# Altium schematic symbol library Socket.SchLib: 57 symbols (part 1 of 2)
Pins are listed as number, name and electrical type; pins without a type are passive.

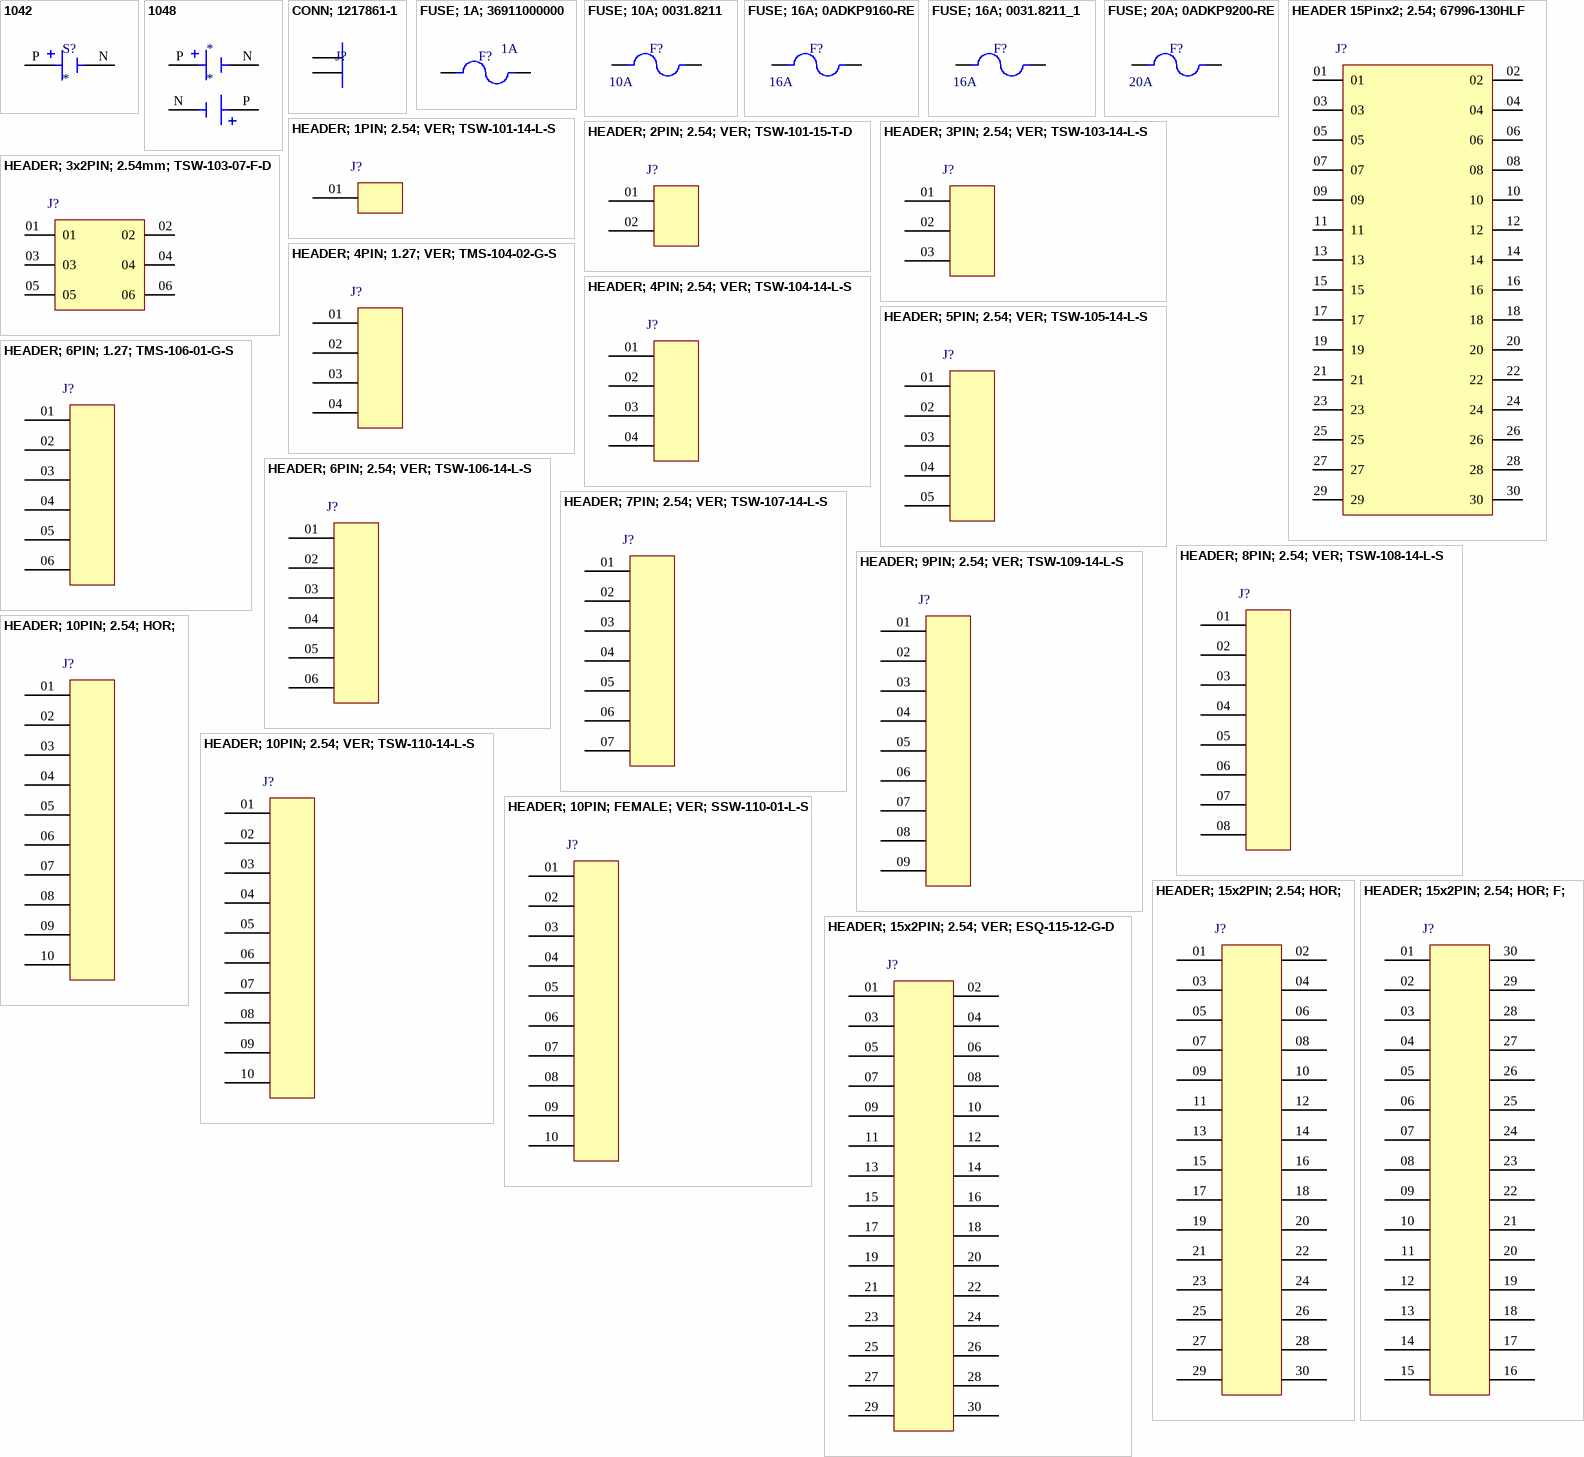
[diagram p0: symbols 1042 to HEADER; 15x2PIN; 2.54; VER; ESQ-115-12-G-D]

## 1042
designator S?
Battery Holder, SMT, Nylon, High Temp, UL 94V-O, 1 Cell, 18650 | Keystone Electronics 1042; Manufacturer Part Number: 1042; Supplier: Future Electronics; Supplier Part Number: 8033674; Manufacturer: Keystone Electronics; RoHS: Yes; Category: LDO; Stock: 1600; Pricing: 200=2.74, 600=2.68, 800=2.66, 2000=2.61, 3000=2.56 (USD); Lead Free: 5697LeadFree; ComponentLink1URL: https://datasheet.ciiva.com/3353/key1042-rev-eng-tds-3353207.pdf?src-supplier=Distrelec; ComponentLink1Description: https://datasheet.ciiva.com/3353/key1042-rev-eng-tds-3353207.pdf?src-supplier=Distrelec; ComponentLink2URL: https://datasheet.ciiva.com/4/1042-4715.pdf?src-supplier=Digikey; ComponentLink2Description: https://datasheet.ciiva.com/4/1042-4715.pdf?src-supplier=Digikey
footprint SMD-18650-BAT-1042
pins: N NEG, P POS

## 1048
designator *
Battery Holder, SMT, Nylon, High Temp, UL 94V-O, 2 Cell, 18650 | Keystone Electronics 1048; Manufacturer Part Number: 1048; Supplier: Newark; Supplier Part Number: 56T2029; Manufacturer: Keystone Electronics; RoHS: Yes; Category: Batteries and Accessories; Stock: 352; Pricing: 1=9.17, 5=8.78, 10=8.38, 25=7.99, 50=7.32, 100=6.66 (USD); ComponentLink1URL: https://datasheet.ciiva.com/4/1048-4780.pdf?src-supplier=Digikey; ComponentLink1Description: https://datasheet.ciiva.com/4/1048-4780.pdf?src-supplier=Digikey; ComponentLink2URL: https://datasheet.ciiva.com/3353/key1048-rev-eng-tds-3353209.pdf?src-supplier=Distrelec; ComponentLink2Description: https://datasheet.ciiva.com/3353/key1048-rev-eng-tds-3353209.pdf?src-supplier=Distrelec; ComponentLink3URL: https://datasheet.ciiva.com/6946/m60p17-6946688.pdf?src-supplier=Newark; ComponentLink3Description: https://datasheet.ciiva.com/6946/m60p17-6946688.pdf?src-supplier=Newark; ComponentLink4URL: https://datasheet.ciiva.com/14603/70182388-14603690.pdf?src-supplier=Allied+Electronics; ComponentLink4Description: https://datasheet.ciiva.com/14603/70182388-14603690.pdf?src-supplier=Allied+Electronics
pins: N NEG, N NEG, P POS, P POS

## CONN; 1217861-1
designator J?, comment 0.250" (6.35mm) Quick Connect Male Solder Connector Non-Insulated  (value not drawn)
Quick Disconnect Terminal Tab 10.21mm 7.92mm Tin Strip; Manufacturer: TE Connectivity; Manufacturer Part Number: 1217861-1; Designer: TVBac; Supplier: Avnet; Supplier Part Number: 1217861-1; RoHS: Yes; Category: Terminals; Stock: 190000; Pricing: 10000=0.03143 (USD); Min Operating Temperature: -30°C; Max Operating Temperature: 110°C; Orientation: 5491OrientationType; Height: 10.21mm; Lead Free: 5697LeadFree; RoHS Compliant: 5897YesNo; ELV: 5681ELVCompliant; ComponentLink1URL: https://datasheet.ciiva.com/23773/eng-cd-1217861-f3-23773529.pdf?src-supplier=Newark; ComponentLink1Description: https://datasheet.ciiva.com/23773/eng-cd-1217861-f3-23773529.pdf?src-supplier=Newark; ComponentLink2Description: Link Digikey; ComponentLink2URL: https://www.digikey.com/en/products/detail/te-connectivity-amp-connectors/1217861-1/1148769
footprint CONN-QC-TAB-TECAC
pins: 1, 2

## FUSE; 1A; 36911000000
designator F?, comment value 1A  (hidden comment: 1 A 300 V AC DC Fuse Board Mount (Cartridge Style Excluded) Through Hole Radial, Box)
Fuse Subminiature Slow Blow Acting 1A 300V Radial 8.5 X 4 X 8mm Ammo Pack; Manufacturer: Littelfuse Wickmann; Manufacturer Part Number: 36911000000; DC Cold Resistance: 71.5mR; Blow Characteristic: TIME DELAY; Lead Length: 18.8mm; Designer: TVBac; Supplier: Digikey; Supplier Part Number: F5459CT-ND; RoHS: Yes; Category: Fuses; Stock: 1380; Pricing: 1=0.58, 5=0.482, 10=0.446, 50=0.3714, 100=0.3433, 250=0.30924, 500=0.28568, 1400=0.25378, 2800=0.23421, 4200=0.22341, 7000=0.218 (USD); Mounting Technology: Through Hole; Case/Package: Radial; Min Operating Temperature: -40°C; Max Operating Temperature: 85°C; Package Quantity: 1400; Current Rating: 1A; Voltage Rating (AC): 300V; Packaging: Cut Tape; Termination: Radial; Current: 1A; Fuse Current: 1A; Working Voltage: 300V; Fuse Type: Board Mount (Cartridge Style Excluded); Series: TE5® 369; Length: 0.335inch; Width: 0.157inch; Height: 0.315inch; Size: 8mm; Reach SVHC Compliant: No; Lead Free: Lead Free; RoHS Compliant: Yes; ComponentLink1URL: https://datasheet.ciiva.com/7464/littelfuse-fuse-369-series-7464654.pdf?src-supplier=Digikey; ComponentLink1Description: https://datasheet.ciiva.com/7464/littelfuse-fuse-369-series-7464654.pdf?src-supplier=Digikey; ComponentLink2URL: https://datasheet.ciiva.com/16320/littelfuse-fuse-369-16320426.pdf?src-supplier=Future+Electronics; ComponentLink2Description: https://datasheet.ciiva.com/16320/littelfuse-fuse-369-16320426.pdf?src-supplier=Future+Electronics; ComponentLink3Description: Link Digikey; ComponentLink3URL: https://www.digikey.com/en/products/detail/littelfuse-inc/36911000000/1986930
footprint FUSE-HxLxW-8.0x8.5x4.0-LI
pins: 1, 2

## FUSE; 10A; 0031.8211
designator F?, comment value 10A  (hidden comment: Fuse Block 10 A 500V 1 Circuit Cartridge Through Hole)
Fuse Holder Open Design; 5 x 20mm; 500; 10A; 1P; Solder THT 25mm; Manufacturer: Schurter; Manufacturer Part Number: 0031.8211; Designer: TVBac; Supplier: Digikey; Supplier Part Number: 486-1259-ND; RoHS: Yes; Category: Fuse Holders; Stock: 46433; Pricing: 1=0.91, 50=0.676, 100=0.608, 500=0.47 (USD); ComponentLink1URL: https://datasheet.ciiva.com/16215/93typ-ogn-16215101.pdf?src-supplier=Onlinecomponents.com; ComponentLink1Description: https://datasheet.ciiva.com/16215/93typ-ogn-16215101.pdf?src-supplier=Onlinecomponents.com; ComponentLink2URL: https://datasheet.ciiva.com/295/typ-ogn-295737.pdf?src-supplier=Digikey; ComponentLink2Description: https://datasheet.ciiva.com/295/typ-ogn-295737.pdf?src-supplier=Digikey; ComponentLink3URL: https://datasheet.ciiva.com/18416/70160102-18416645.pdf?src-supplier=Allied+Electronics; ComponentLink3Description: https://datasheet.ciiva.com/18416/70160102-18416645.pdf?src-supplier=Allied+Electronics; ComponentLink4URL: https://datasheet.ciiva.com/1269/1842496-1269252.pdf?src-supplier=Element14; ComponentLink4Description: https://datasheet.ciiva.com/1269/1842496-1269252.pdf?src-supplier=Element14; ComponentLink5URL: https://datasheet.ciiva.com/15188/getdatasheetpartid-392105-15188043.pdf?src-supplier=Verical; ComponentLink5Description: https://datasheet.ciiva.com/15188/getdatasheetpartid-392105-15188043.pdf?src-supplier=Verical; ComponentLink6URL: https://datasheet.ciiva.com/16385/typ-ogn-16385398.pdf?src-supplier=Future+Electronics; ComponentLink6Description: https://datasheet.ciiva.com/16385/typ-ogn-16385398.pdf?src-supplier=Future+Electronics; ComponentLink7URL: https://datasheet.ciiva.com/3014/typ-ogn-3014481.pdf?src-supplier=Avnet; ComponentLink7Description: https://datasheet.ciiva.com/3014/typ-ogn-3014481.pdf?src-supplier=Avnet; ComponentLink8Description: Link Digikey; ComponentLink8URL: https://www.digikey.com/en/products/detail/schurter-inc/0031-8211/669926
footprint FUSE-5mmx20mm-CHURTER
pins: 1, 2

## FUSE; 16A; 0ADKP9160-RE
designator F?, comment value 16A  (hidden comment: 16 A 600 V AC 500 V DC Fuse Cartridge, Ceramic Through Hole 5mm x 20mm (Axial))
Fuse 16A 600VAC 500VDC Time Delay 2-Pin Through Hole; Manufacturer: Bel; Manufacturer Part Number: 0ADKP9160-RE; Designer: TVBac; Supplier: Mouser; Supplier Part Number: 530-0ADKP9160-RE; RoHS: No; Category: Fuses; Stock: 930; Pricing: 1=1.95, 10=1.85, 50=1.49, 100=1.29, 1000=0.989, 10000=0.917 (USD); ComponentLink1URL: https://belfuse.com/resources/datasheets/circuitprotection/ds-cp-0adkx-series.pdf?src-supplier=Digikey; ComponentLink1Description: https://belfuse.com/resources/datasheets/circuitprotection/ds-cp-0adkx-series.pdf?src-supplier=Digikey; ComponentLink2Description: Link Digikey; ComponentLink2URL: https://www.digikey.com/en/products/detail/bel-fuse-inc/0ADKP9160-RE/7404483
footprint FUSE-5mmx20mm-AXIAL-BFI
pins: 1, 2

## FUSE; 16A; 0031.8211_1
designator F?  value 16A
Manufacturer: Schurter; Manufacturer Part Number: 0031.8211; Designer: TVBac; Supplier: Digikey; Supplier Part Number: 486-1259-ND; RoHS: Yes; Category: Fuse Holders; Stock: 46433; Pricing: 1=0.91, 50=0.676, 100=0.608, 500=0.47 (USD); ComponentLink1URL: https://datasheet.ciiva.com/16215/93typ-ogn-16215101.pdf?src-supplier=Onlinecomponents.com; ComponentLink1Description: https://datasheet.ciiva.com/16215/93typ-ogn-16215101.pdf?src-supplier=Onlinecomponents.com; ComponentLink2URL: https://datasheet.ciiva.com/295/typ-ogn-295737.pdf?src-supplier=Digikey; ComponentLink2Description: https://datasheet.ciiva.com/295/typ-ogn-295737.pdf?src-supplier=Digikey; ComponentLink3URL: https://datasheet.ciiva.com/18416/70160102-18416645.pdf?src-supplier=Allied+Electronics; ComponentLink3Description: https://datasheet.ciiva.com/18416/70160102-18416645.pdf?src-supplier=Allied+Electronics; ComponentLink4URL: https://datasheet.ciiva.com/1269/1842496-1269252.pdf?src-supplier=Element14; ComponentLink4Description: https://datasheet.ciiva.com/1269/1842496-1269252.pdf?src-supplier=Element14; ComponentLink5URL: https://datasheet.ciiva.com/15188/getdatasheetpartid-392105-15188043.pdf?src-supplier=Verical; ComponentLink5Description: https://datasheet.ciiva.com/15188/getdatasheetpartid-392105-15188043.pdf?src-supplier=Verical; ComponentLink6URL: https://datasheet.ciiva.com/16385/typ-ogn-16385398.pdf?src-supplier=Future+Electronics; ComponentLink6Description: https://datasheet.ciiva.com/16385/typ-ogn-16385398.pdf?src-supplier=Future+Electronics; ComponentLink7URL: https://datasheet.ciiva.com/3014/typ-ogn-3014481.pdf?src-supplier=Avnet; ComponentLink7Description: https://datasheet.ciiva.com/3014/typ-ogn-3014481.pdf?src-supplier=Avnet
footprint FUSE-3.6mmx10mm-AXIAL
pins: 1, 2

## FUSE; 20A; 0ADKP9200-RE
designator F?, comment value 20A  (hidden comment: 20 A 600 V AC 500 V DC Fuse Cartridge, Ceramic Through Hole 5mm x 20mm (Axial))
Fuse 20A 600VAC 500VDC Time Delay 2-Pin Through Hole; Manufacturer: Bel; Manufacturer Part Number: 0ADKP9200-RE; Designer: TVBac; Supplier: Digikey; Supplier Part Number: 5923-0ADKP9200-RE-ND; RoHS: Yes; Category: Fuses; Stock: 157; Pricing: 1=2.13, 5=1.774, 10=1.64, 50=1.3664, 100=1.2626, 250=1.13684, 500=1.04966, 1000=0.96871, 5000=0.80225 (USD); ComponentLink1URL: https://belfuse.com/resources/Datasheets/CircuitProtection/ds-CP-0adkx-series.pdf?src-supplier=Digikey; ComponentLink1Description: https://belfuse.com/resources/Datasheets/CircuitProtection/ds-CP-0adkx-series.pdf?src-supplier=Digikey; ComponentLink2URL: https://datasheet.octopart.com/0ADKP9200-RE-Bel-Fuse-datasheet-154833970.pdf?src-supplier=Master+Electronics; ComponentLink2Description: https://datasheet.octopart.com/0ADKP9200-RE-Bel-Fuse-datasheet-154833970.pdf?src-supplier=Master+Electronics; ComponentLink3Description: Link Digikey; ComponentLink3URL: https://www.digikey.com/en/products/detail/bel-fuse-inc/0ADKP9200-RE/7404484
footprint FUSE-5mmx20mm-AXIAL-BFI
pins: 1, 2

## HEADER 15Pinx2; 2.54; 67996-130HLF
designator J?, comment Connector Header Through Hole 30 position 0.100" (2.54mm)  (value not drawn)
Conn Unshrouded Header HDR 30 POS 2.54mm Solder ST Top Entry Thru-Hole BergStik® Bulk; Manufacturer: Amphenol ICC / FCI; Manufacturer Part Number: 67996-130HLF; Designer: TVBac; Supplier: Digikey; Supplier Part Number: 609-3456-ND; RoHS: No; Category: Headers and Wire Housings; Stock: 164; Pricing: 1=2.48, 10=1.892, 200=1.25675, 600=1.17798, 1000=1.08894, 5000=0.97663, 10000=0.94925 (USD); ComponentLink1URL: https://cdn.amphenol-icc.com/media/wysiwyg/files/drawing/67996.pdf?src-supplier=Digikey; ComponentLink1Description: https://cdn.amphenol-icc.com/media/wysiwyg/files/drawing/67996.pdf?src-supplier=Digikey; ComponentLink2URL: http://www.mouser.com/ds/2/154/67996-225308.pdf?src-supplier=Mouser; ComponentLink2Description: http://www.mouser.com/ds/2/154/67996-225308.pdf?src-supplier=Mouser; ComponentLink3URL: http://portal.fciconnect.com/Comergent/fci/drawing/67996.pdf?src-supplier=Avnet; ComponentLink3Description: http://portal.fciconnect.com/Comergent/fci/drawing/67996.pdf?src-supplier=Avnet; ComponentLink4URL: http://components.arrow.com/part/dataview/41913581S849310N8314?src-supplier=Arrow+Electronics; ComponentLink4Description: http://components.arrow.com/part/dataview/41913581S849310N8314?src-supplier=Arrow+Electronics; ComponentLink5Description: Link Digikey; ComponentLink5URL: https://www.digikey.com/en/products/detail/amphenol-icc-fci/67996-130HLF/2023300
footprint HEADER-15x2-2.54mm
pins: 01, 02, 03, 04, 05, 06, 07, 08, 09, 10, 11, 12, 13, 14, 15, 16, 17, 18, 19, 20, 21, 22, 23, 24, 25, 26, 27, 28, 29, 30

## HEADER; 1PIN; 2.54; VER; TSW-101-14-L-S
designator J?, comment Connector Header Through Hole 1 position  (value not drawn)
Board Connector, 1 Contact(s), 1 Row(s), Male, Straight, Solder Terminal, Black Insulator; Manufacturer: Samtec; Manufacturer Part Number: TSW-101-14-L-S; Designer: TVBac; Supplier: Arrow Electronics; Supplier Part Number: TSW-101-14-L-S; RoHS: Yes; Category: Connectors; Stock: 4464; Pricing: 1=0.13, 50=0.1, 100=0.08, 500=0.07, 1000=0.05, 2000=0.04, 5000=0.03 (USD); ComponentLink1URL: https://datasheet.ciiva.com/10298/htsw-th-10298748.pdf?src-supplier=Avnet; ComponentLink1Description: https://datasheet.ciiva.com/10298/htsw-th-10298748.pdf?src-supplier=Avnet; ComponentLink2URL: https://datasheet.ciiva.com/6889/tsw-xxx-xx-xxx-x-xx-xxx-mkt-6889017.pdf?src-supplier=Digikey; ComponentLink2Description: https://datasheet.ciiva.com/6889/tsw-xxx-xx-xxx-x-xx-xxx-mkt-6889017.pdf?src-supplier=Digikey; ComponentLink3Description: Link Digikey; ComponentLink3URL: https://www.digikey.com/en/products/detail/samtec-inc/TSW-101-14-L-S/1102623
footprint HEADER-2.54-1
pins: 01 1

## HEADER; 2PIN; 2.54; VER; TSW-101-15-T-D
designator J?, comment Connector Header Through Hole 2 position  (value not drawn)
Headers & Wire Housings Classic PCB Header Strips, 0.100 pitch; Manufacturer: Samtec; Manufacturer Part Number: TSW-101-15-T-D; Designer: TVBac; Supplier: Arrow Electronics; Supplier Part Number: TSW-101-15-T-D; RoHS: Yes; Category: Connectors; Stock: 4464; Pricing: 1=0.18, 50=0.14, 100=0.12, 500=0.1, 1000=0.07, 2000=0.06, 5000=0.05 (USD); ComponentLink1URL: https://datasheet.ciiva.com/10283/htsw-th-10283318.pdf?src-supplier=Avnet; ComponentLink1Description: https://datasheet.ciiva.com/10283/htsw-th-10283318.pdf?src-supplier=Avnet; ComponentLink2Description: Link Digikey; ComponentLink2URL: https://www.digikey.com/en/products/detail/samtec-inc/TSW-101-15-T-D/7861723
footprint HEADER-2.54-2
footprint HEADER-2.54-2 - U3D
pins: 01 1, 02 2

## HEADER; 3PIN; 2.54; VER; TSW-103-14-L-S
designator J?, comment Connector Header Through Hole 3 position 0.100" (2.54mm)  (value not drawn)
Conn Unshrouded Header HDR 3 POS 2.54mm Solder ST Top Entry Thru-Hole Bag; Manufacturer: Samtec; Manufacturer Part Number: TSW-103-14-L-S; Max Current Rating: 7.6A; Voltage Rating: 550V; Number of Positions: 3; Gender: Male; Designer: TVBac; Supplier: Digikey; Supplier Part Number: SAM1055-03-ND; RoHS: Yes; Category: Connectors; Stock: 942; Pricing: 1=0.37, 10=0.319, 100=0.2482, 500=0.21278, 1000=0.17732, 5000=0.15198, 10000=0.14185 (USD); Mounting Technology: Through Hole; Contact Plating: Gold; Contact Material: Bronze; Housing Color: Black; Housing Material: Polyester; Contact Shape: Square; Contact Finish - Mating: GOLD; Insulation Material: PBT; Insulation Color: Black; Min Operating Temperature: -55°C; Max Operating Temperature: 125°C; Number of Rows: 1; Packaging: Bulk; Current Rating: 7.6A; Termination: Solder; Number of Contacts: 3; Max Voltage Rating (AC): 550V; Orientation: Straight; Connector Type: Header; Series: TSW; Contact Type: Male Pin; Fastening Type: Pull; Length: 7.62mm; Width: 2.54mm; Pitch: 2.54mm; Depth: 2.54mm; Reach SVHC Compliant: No; Lead Free: Lead Free; RoHS Compliant: Yes; Flammability Rating: UL94 V-0; ComponentLink1URL: https://datasheet.ciiva.com/25618/0900766b81154476-25618314.pdf?src-supplier=Rs; ComponentLink1Description: https://datasheet.ciiva.com/25618/0900766b81154476-25618314.pdf?src-supplier=Rs; ComponentLink2URL: https://datasheet.ciiva.com/6860/tsw-xxx-xx-xxx-x-xx-xxx-mkt-6860061.pdf?src-supplier=Digikey; ComponentLink2Description: https://datasheet.ciiva.com/6860/tsw-xxx-xx-xxx-x-xx-xxx-mkt-6860061.pdf?src-supplier=Digikey; ComponentLink3Description: Link Digikey; ComponentLink3URL: https://www.digikey.com/en/products/detail/samtec-inc/TSW-103-14-L-S/1102621
footprint HEADER-2.54-3
footprint HEADER-2.54-3-OPTION
pins: 01 1, 02 2, 03 2

## HEADER; 3x2PIN; 2.54mm; TSW-103-07-F-D
designator J?, comment Connector Header Through Hole 6 position 0.100" (2.54mm)  (value not drawn)
Conn Unshrouded Header HDR 6 POS 2.54mm Solder ST Top Entry Thru-Hole Bag; Manufacturer: Samtec; Manufacturer Part Number: TSW-103-07-F-D; Number of Positions: 6; Gender: Male; Pitch: 0.1inch; Supplier: Avnet; Supplier Part Number: TSW-103-07-F-D; RoHS: Yes; Category: Connectors; Stock: 114; Pricing: 1=0.25088, 10=0.24375, 30=0.20516, 50=0.2041, 100=0.20304 (USD); Mounting Technology: Through Hole; Contact Plating: Gold; Contact Material: Bronze; Color: Black; Contact Shape: Square; Contact Finish - Mating: GOLD; Insulation Material: PBT; Insulation Color: Black; Min Operating Temperature: -55°C; Max Operating Temperature: 125°C; Packaging: Bag; Number of Rows: 2; Termination: Solder; Number of Contacts: 6; Connector Type: Header; Series: TSW; Contact Type: Male Pin; Fastening Type: Pull; Row Spacing: 0.1inch; Contact Mating Length: 0.23inch; Radiation Hardening: No; Reach SVHC Compliant: No; RoHS Compliant: Yes; Flammability Rating: UL94 V-0; ComponentLink1URL: https://datasheet.ciiva.com/739/tsw-xxx-xx-xxx-x-xx-xxx-mkt-739891.pdf?src-supplier=Digikey; ComponentLink1Description: https://datasheet.ciiva.com/739/tsw-xxx-xx-xxx-x-xx-xxx-mkt-739891.pdf?src-supplier=Digikey
footprint HEADER-2.54-3x2
pins: 01, 02, 03, 04, 05, 06

## HEADER; 4PIN; 1.27; VER; TMS-104-02-G-S
designator J?, comment Connector Header Through Hole 4 position 0.050" (1.27mm)  (value not drawn)
Conn Unshrouded Header HDR 4 POS 1.27mm Solder ST Top Entry Thru-Hole Bulk; Manufacturer: Samtec; Manufacturer Part Number: TMS-104-02-G-S; Number of Contacts: 4; Gender: Male; Designer: TVBac; Supplier: Avnet; Supplier Part Number: TMS-104-02-G-S; RoHS: Yes; Category: Connectors; Stock: 309; Pricing: 1=0.7301, 10=0.63668, 30=0.63341, 50=0.63015, 100=0.48 (USD); Mounting Technology: Through Hole; Contact Plating: Gold; Contact Material: Bronze; Contact Shape: Square; Contact Finish - Mating: GOLD; Insulation Material: Polymer; Insulation Color: Black; Min Operating Temperature: -55°C; Max Operating Temperature: 125°C; Number of Rows: 1; Packaging: Bulk; Termination: Solder; Series: TMS; Connector Type: Header; Fastening Type: Pull; Contact Type: Male Pin; Number of Positions: 4; Pitch: 1.27mm; Radiation Hardening: No; Reach SVHC Compliant: No; RoHS Compliant: Yes; Flammability Rating: UL94 V-0; ComponentLink1URL: http://www.farnell.com/datasheets/1992060.pdf?_ga=2.199389226.569325269.1503285096-1413671594.1503025027&src-supplier=Farnell; ComponentLink1Description: http://www.farnell.com/datasheets/1992060.pdf?_ga=2.199389226.569325269.1503285096-1413671594.1503025027&src-supplier=Farnell; ComponentLink2URL: http://www.samtec.com/documents/webfiles/pdf/HTMS_TH.PDF?src-supplier=Avnet; ComponentLink2Description: http://www.samtec.com/documents/webfiles/pdf/HTMS_TH.PDF?src-supplier=Avnet; ComponentLink3URL: http://suddendocs.samtec.com/prints/tms-1xx-xx-xx-x-xx-xxx-mkt.pdf?src-supplier=Digikey; ComponentLink3Description: http://suddendocs.samtec.com/prints/tms-1xx-xx-xx-x-xx-xxx-mkt.pdf?src-supplier=Digikey; System: Connector; ComponentLink4Description: Link Digikey; ComponentLink4URL: https://www.digikey.com/en/products/detail/samtec-inc/TMS-104-02-G-S/6691742
footprint HEADER-1.27-4
footprint HEADER-1.27-4 - U3D
pins: 01 1, 02 2, 03 2, 04 4

## HEADER; 4PIN; 2.54; VER; TSW-104-14-L-S
designator J?, comment Connector Header Through Hole 4 position 0.100" (2.54mm)  (value not drawn)
Conn Unshrouded Header HDR 4 POS 2.54mm Solder ST Thru-Hole Automotive Bulk; Manufacturer: Samtec; Manufacturer Part Number: TSW-104-14-L-S; Designer: TVBac; Supplier: Digikey; Supplier Part Number: SAM1055-04-ND; RoHS: Yes; Category: Connectors; Stock: 1246; Pricing: 1=0.43, 10=0.377, 100=0.3107, 500=0.2702, 1000=0.22291, 5000=0.19589, 10000=0.18238 (USD); ComponentLink1URL: https://datasheet.ciiva.com/25618/0900766b81154476-25618487.pdf?src-supplier=Rs; ComponentLink1Description: https://datasheet.ciiva.com/25618/0900766b81154476-25618487.pdf?src-supplier=Rs; ComponentLink2URL: https://datasheet.ciiva.com/10190/htsw-th-10190703.pdf?src-supplier=Avnet; ComponentLink2Description: https://datasheet.ciiva.com/10190/htsw-th-10190703.pdf?src-supplier=Avnet; ComponentLink3Description: Link Digikey; ComponentLink3URL: https://www.digikey.com/en/products/detail/samtec-inc/TSW-104-14-L-S/1102620
footprint HEADER-2.54-4
pins: 01 1, 02 2, 03 2, 04 4

## HEADER; 5PIN; 2.54; VER; TSW-105-14-L-S
designator J?, comment Connector Header Through Hole 5 position 0.100" (2.54mm)  (value not drawn)
Conn Unshrouded Header HDR 5 POS 2.54mm Solder ST Thru-Hole Bulk; Manufacturer: Samtec; Manufacturer Part Number: TSW-105-14-L-S; Designer: TVBac; Supplier: Digikey; Supplier Part Number: SAM1055-05-ND; RoHS: Yes; Category: Connectors; Stock: 834; Pricing: 1=0.54, 10=0.471, 100=0.3884, 500=0.33774, 1000=0.27864, 5000=0.24486, 10000=0.22798 (USD); ComponentLink1URL: https://datasheet.ciiva.com/25616/0900766b81154476-25616851.pdf?src-supplier=Rs; ComponentLink1Description: https://datasheet.ciiva.com/25616/0900766b81154476-25616851.pdf?src-supplier=Rs; ComponentLink2URL: https://datasheet.ciiva.com/6860/tsw-xxx-xx-xxx-x-xx-xxx-mkt-6860586.pdf?src-supplier=Digikey; ComponentLink2Description: https://datasheet.ciiva.com/6860/tsw-xxx-xx-xxx-x-xx-xxx-mkt-6860586.pdf?src-supplier=Digikey; ComponentLink3Description: Link Digikey; ComponentLink3URL: https://www.digikey.com/en/products/detail/samtec-inc/TSW-105-14-L-S/1102619
footprint HEADER-2.54-5
pins: 01 1, 02 2, 03 2, 04 4, 05 5

## HEADER; 6PIN; 1.27; TMS-106-01-G-S
designator J?, comment Connector Header Through Hole 6 position 0.050" (1.27mm)  (value not drawn)
Conn Unshrouded Header HDR 6 POS 1.27mm Solder ST Top Entry Thru-Hole Bulk; Manufacturer: Samtec; Manufacturer Part Number: TMS-106-01-G-S; Supplier: Avnet; Supplier Part Number: TMS-106-01-G-S; RoHS: Yes; Category: Connectors; Stock: 3460; Pricing: 1=1.3622, 10=0.78975, 30=0.7372, 50=0.7334, 100=0.7296 (USD); ComponentLink1URL: http://www.farnell.com/datasheets/1992060.pdf?src-supplier=Farnell; ComponentLink1Description: http://www.farnell.com/datasheets/1992060.pdf?src-supplier=Farnell; ComponentLink2URL: http://components.arrow.com/part/dataview/2687425S8263651N1004?src-supplier=Arrow+Electronics; ComponentLink2Description: http://components.arrow.com/part/dataview/2687425S8263651N1004?src-supplier=Arrow+Electronics; ComponentLink3URL: https://datasheet.octopart.com/TMS-106-01-G-S-Samtec-datasheet-55974099.pdf?src-supplier=Farnell; ComponentLink3Description: https://datasheet.octopart.com/TMS-106-01-G-S-Samtec-datasheet-55974099.pdf?src-supplier=Farnell; ComponentLink4URL: https://datasheet.octopart.com/TMS-106-01-G-S-Samtec-datasheet-11547487.pdf?src-supplier=Newark; ComponentLink4Description: https://datasheet.octopart.com/TMS-106-01-G-S-Samtec-datasheet-11547487.pdf?src-supplier=Newark; ComponentLink5URL: http://www.farnell.com/datasheets/1992060.pdf?src-supplier=Element14; ComponentLink5Description: http://www.farnell.com/datasheets/1992060.pdf?src-supplier=Element14; ComponentLink6URL: http://www.samtec.com/documents/webfiles/pdf/HTMS_TH.PDF?src-supplier=Avnet; ComponentLink6Description: http://www.samtec.com/documents/webfiles/pdf/HTMS_TH.PDF?src-supplier=Avnet; ComponentLink7URL: http://suddendocs.samtec.com/prints/tms-1xx-xx-xx-x-xx-xxx-mkt.pdf?src-supplier=Digikey; ComponentLink7Description: http://suddendocs.samtec.com/prints/tms-1xx-xx-xx-x-xx-xxx-mkt.pdf?src-supplier=Digikey; ComponentLink8URL: https://datasheet.octopart.com/TMS-106-01-G-S-Samtec-datasheet-138799754.pdf?src-supplier=Toby+Electronics; ComponentLink8Description: https://datasheet.octopart.com/TMS-106-01-G-S-Samtec-datasheet-138799754.pdf?src-supplier=Toby+Electronics; ComponentLink9URL: https://datasheet.octopart.com/TMS-106-01-G-S-Samtec-datasheet-154786492.pdf?src-supplier=Master+Electronics; ComponentLink9Description: https://datasheet.octopart.com/TMS-106-01-G-S-Samtec-datasheet-154786492.pdf?src-supplier=Master+Electronics; ComponentLink10URL: https://datasheet.octopart.com/TMS-106-01-G-S-Samtec-datasheet-97317866.pdf?src-supplier=Sager+Electronics; ComponentLink10Description: https://datasheet.octopart.com/TMS-106-01-G-S-Samtec-datasheet-97317866.pdf?src-supplier=Sager+Electronics
footprint HEADER-1.27-6 - U3D
footprint HEADER-1.27-6
pins: 01 1, 02 2, 03 2, 04 4, 05 5, 06 6

## HEADER; 6PIN; 2.54; VER; TSW-106-14-L-S
designator J?, comment Connector Header Through Hole 6 position 0.100" (2.54mm)  (value not drawn)
Conn Unshrouded Header HDR 6 POS 2.54mm Solder ST Thru-Hole Automotive Bulk; Manufacturer: Samtec; Manufacturer Part Number: TSW-106-14-L-S; Designer: TVBac; Supplier: Digikey; Supplier Part Number: SAM1055-06-ND; RoHS: Yes; Category: Connectors; Stock: 545; Pricing: 1=0.65, 10=0.565, 100=0.4661, 500=0.4053, 1000=0.33437, 5000=0.29384, 10000=0.27357 (USD); ComponentLink1URL: https://datasheet.ciiva.com/25618/0900766b81154476-25618448.pdf?src-supplier=Rs; ComponentLink1Description: https://datasheet.ciiva.com/25618/0900766b81154476-25618448.pdf?src-supplier=Rs; ComponentLink2URL: https://datasheet.ciiva.com/6860/tsw-xxx-xx-xxx-x-xx-xxx-mkt-6860701.pdf?src-supplier=Digikey; ComponentLink2Description: https://datasheet.ciiva.com/6860/tsw-xxx-xx-xxx-x-xx-xxx-mkt-6860701.pdf?src-supplier=Digikey; ComponentLink3Description: Link Digikey; ComponentLink3URL: https://www.digikey.com/en/products/detail/samtec-inc/TSW-106-14-L-S/1102618
footprint HEADER-2.54-6
pins: 01 1, 02 2, 03 2, 04 4, 05 5, 06 6

## HEADER; 7PIN; 2.54; VER; TSW-107-14-L-S
designator J?, comment Connector Header Through Hole 7 position 0.100" (2.54mm)  (value not drawn)
Headers & Wire Housings Classic PCB Header Strips, 0.100 pitch; Manufacturer: Samtec; Manufacturer Part Number: TSW-107-14-L-S; Designer: TVBac; Supplier: Digikey; Supplier Part Number: SAM1055-07-ND; RoHS: Yes; Category: Connectors; Stock: 305; Pricing: 1=0.76, 10=0.66, 100=0.5438, 500=0.47284, 1000=0.39009, 5000=0.34281, 10000=0.31917 (USD); ComponentLink1URL: https://datasheet.ciiva.com/25618/0900766b81154476-25618446.pdf?src-supplier=Rs; ComponentLink1Description: https://datasheet.ciiva.com/25618/0900766b81154476-25618446.pdf?src-supplier=Rs; ComponentLink2Description: Link Digikey; ComponentLink2URL: https://www.digikey.com/en/products/detail/samtec-inc/TSW-107-14-L-S/1102617
footprint HEADER-2.54-7
pins: 01 1, 02 2, 03 2, 04 4, 05 5, 06 6, 07 7

## HEADER; 8PIN; 2.54; VER; TSW-108-14-L-S
designator J?, comment Connector Header Through Hole 8 position 0.100" (2.54mm)  (value not drawn)
Conn Unshrouded Header HDR 8 POS 2.54mm Solder ST Thru-Hole; Manufacturer: Samtec; Manufacturer Part Number: TSW-108-14-L-S; Designer: TVBac; Supplier: Digikey; Supplier Part Number: SAM1055-08-ND; RoHS: Yes; Category: Connectors; Stock: 389; Pricing: 1=0.78, 10=0.662, 100=0.5944, 500=0.48636, 1000=0.43231, 5000=0.37827, 10000=0.35936 (USD); ComponentLink1URL: https://datasheet.ciiva.com/25616/0900766b81154476-25616856.pdf?src-supplier=Rs; ComponentLink1Description: https://datasheet.ciiva.com/25616/0900766b81154476-25616856.pdf?src-supplier=Rs; ComponentLink2URL: https://datasheet.ciiva.com/6861/tsw-xxx-xx-xxx-x-xx-xxx-mkt-6861159.pdf?src-supplier=Digikey; ComponentLink2Description: https://datasheet.ciiva.com/6861/tsw-xxx-xx-xxx-x-xx-xxx-mkt-6861159.pdf?src-supplier=Digikey; ComponentLink3Description: Link Digikey; ComponentLink3URL: https://www.digikey.com/en/products/detail/samtec-inc/TSW-108-14-L-S/1102616
footprint HEADER-2.54-8
footprint HEADER-2.54-8 - U3D
pins: 01 1, 02 2, 03 2, 04 4, 05 5, 06 6, 07 7, 08 8

## HEADER; 9PIN; 2.54; VER; TSW-109-14-L-S
designator J?, comment Connector Header Through Hole 9 position 0.100" (2.54mm)  (value not drawn)
Headers & Wire Housings Classic PCB Header Strips, 0.100 pitch; Manufacturer: Samtec; Manufacturer Part Number: TSW-109-14-L-S; Designer: TVBac; Supplier: Arrow Electronics; Supplier Part Number: TSW-109-14-L-S; RoHS: Yes; Category: Connectors; Stock: 1805; Pricing: 1=1.13, 50=0.88, 100=0.71, 500=0.6, 1000=0.45, 2000=0.4, 5000=0.29, 57327=0.19, 154939=0.17, 335004=0.16 (USD); ComponentLink1URL: https://datasheet.ciiva.com/25616/0900766b81154476-25616864.pdf?src-supplier=Rs; ComponentLink1Description: https://datasheet.ciiva.com/25616/0900766b81154476-25616864.pdf?src-supplier=Rs; ComponentLink2URL: https://datasheet.ciiva.com/6886/tsw-xxx-xx-xxx-x-xx-xxx-mkt-6886667.pdf?src-supplier=Digikey; ComponentLink2Description: https://datasheet.ciiva.com/6886/tsw-xxx-xx-xxx-x-xx-xxx-mkt-6886667.pdf?src-supplier=Digikey; ComponentLink3Description: Link Digikey; ComponentLink3URL: https://www.digikey.com/en/products/detail/samtec-inc/TSW-109-14-L-S/1102615
pins: 01 1, 02 2, 03 2, 04 4, 05 5, 06 6, 07 7, 08 8, 09 9

## HEADER; 10PIN; 2.54; HOR;
designator J?  (value not drawn)
System: Connector; Designer: TVBac
footprint HEADER-2.54-10x1-HOR
pins: 01 1, 02 2, 03 2, 04 4, 05 5, 06 6, 07 7, 08 8, 09 9, 10

## HEADER; 10PIN; 2.54; VER; TSW-110-14-L-S
designator J?, comment Connector Header Through Hole 10 position 0.100" (2.54mm)  (value not drawn)
Conn Unshrouded Header HDR 10 POS 2.54mm Solder ST Thru-Hole; Manufacturer: Samtec; Manufacturer Part Number: TSW-110-14-L-S; Designer: TVBac; Supplier: Digikey; Supplier Part Number: SAM1055-10-ND; RoHS: Yes; Category: Connectors; Stock: 486; Pricing: 1=0.98, 10=0.827, 100=0.743, 500=0.60794, 1000=0.54039, 5000=0.47284, 10000=0.4492 (USD); ComponentLink1URL: https://datasheet.ciiva.com/25616/0900766b81154476-25616962.pdf?src-supplier=Rs; ComponentLink1Description: https://datasheet.ciiva.com/25616/0900766b81154476-25616962.pdf?src-supplier=Rs; ComponentLink2URL: https://datasheet.ciiva.com/6861/tsw-xxx-xx-xxx-x-xx-xxx-mkt-6861237.pdf?src-supplier=Digikey; ComponentLink2Description: https://datasheet.ciiva.com/6861/tsw-xxx-xx-xxx-x-xx-xxx-mkt-6861237.pdf?src-supplier=Digikey; ComponentLink3URL: https://datasheet.ciiva.com/10252/htsw-th-10252219.pdf?src-supplier=Avnet; ComponentLink3Description: https://datasheet.ciiva.com/10252/htsw-th-10252219.pdf?src-supplier=Avnet; ComponentLink4Description: Link Digikey; ComponentLink4URL: https://www.digikey.com/en/products/detail/samtec-inc/TSW-110-14-L-S/1102614; System: Connector
footprint HEADER-2.54-10
pins: 01 1, 02 2, 03 2, 04 4, 05 5, 06 6, 07 7, 08 8, 09 9, 10

## HEADER; 10PIN; FEMALE; VER; SSW-110-01-L-S
designator J?, comment 10 Position Receptacle Connector 0.100" (2.54mm) Through Hole Gold  (value not drawn)
Conn Socket Strip SKT 10 POS 2.54mm Solder ST Top Entry Thru-Hole Bulk; Manufacturer: Samtec; Manufacturer Part Number: SSW-110-01-L-S; Number of Contacts: 10; Gender: Female; Mating Cycles: 100; Designer: TVBac; Supplier: Arrow Electronics; Supplier Part Number: SSW-110-01-L-S; RoHS: Yes; Category: Connectors; Stock: 707; Pricing: 1=1.96, 50=1.6, 100=1.36, 500=1.21, 1000=0.9, 2000=0.8, 5000=0.6, 27575=0.39 (USD); Contact Plating: Gold; Contact Material: Bronze; Color: Black; Contact Finish - Mating: GOLD; Insulation Color: Black; Insulation Material: Polymer; Contact Shape: Square; Min Operating Temperature: -55°C; Max Operating Temperature: 125°C; Number of Rows: 1; Packaging: Bulk; Termination: Solder; Connector Type: Receptacle; Fastening Type: Pull; Series: SSW; Contact Type: Forked; Number of Positions: 10; Pitch: 2.54mm; Radiation Hardening: No; RoHS Compliant: Yes; Flammability Rating: UL94 V-0; ComponentLink1URL: ftp://ftp.samtec.com/webfiles/PDF/SSQ_TH.PDF?src-supplier=Avnet; ComponentLink1Description: ftp://ftp.samtec.com/webfiles/PDF/SSQ_TH.PDF?src-supplier=Avnet; System: Connector; ComponentLink2Description: Link Digikey; ComponentLink2URL: https://www.digikey.com/en/products/detail/samtec-inc/SSW-110-01-L-S/6613832
footprint HEADER-10x1-FEMALE-SAM
pins: 01 1, 02 2, 03 2, 04 4, 05 5, 06 6, 07 7, 08 8, 09 9, 10

## HEADER; 15x2PIN; 2.54; HOR;
designator J?  (value not drawn)
Designer: TVBac; System: Connector
footprint HEADER-2.54-15x2-HOR
footprint HEADER-2.54-15x2-HOR-U3D
pins: 01, 02, 03, 04, 05, 06, 07, 08, 09, 10, 11, 12, 13, 14, 15, 16, 17, 18, 19, 20, 21, 22, 23, 24, 25, 26, 27, 28, 29, 30

## HEADER; 15x2PIN; 2.54; HOR; F;
designator J?  (value not drawn)
Designer: TVBac; System: Connector
footprint HEADER-2.54-15x2-HOR
pins: 01 1, 02 2, 03 2, 04 4, 05 5, 06 6, 07 7, 08 8, 09 9, 10, 11, 12, 13, 14, 15, 16, 17, 18, 19, 20, 21, 22, 23, 24, 25, 26, 27, 28, 29, 30

## HEADER; 15x2PIN; 2.54; VER; ESQ-115-12-G-D
designator J?, comment 30 Position Elevated Socket Connector 0.100" (2.54mm) Through Hole Gold  (value not drawn)
Connector Receptacle 30 Position 0.100" (2.54mm) Gold Through Hole; Manufacturer: Samtec; Manufacturer Part Number: ESQ-115-12-G-D; Number of Positions: 30; Pitch: 0.1inch; Designer: TVBac; Supplier: Avnet; Supplier Part Number: ESQ-115-12-G-D; RoHS: Yes; Category: Connectors; Stock: 311; Pricing: 1=6.2034, 10=5.5341, 30=5.50572, 50=5.47734, 100=4.4064 (USD); Mounting Technology: Through Hole; Contact Plating: Gold; Contact Material: Bronze; Color: Black; Number of Rows: 2; Packaging: Rail/Tube; Package Quantity: 1; Connector Type: Receptacle; Termination: Solder; Number of Contacts: 30; Gender: Receptacle; Series: ESQ; Contact Type: Female Socket; Row Spacing: 0.1inch; Reach SVHC Compliant: No; RoHS Compliant: Yes; ComponentLink1URL: https://datasheet.ciiva.com/755/esq-1xx-xx-x-x-xxx-xx-x-xx-mkt-755974.pdf?src-supplier=Digikey; ComponentLink1Description: https://datasheet.ciiva.com/755/esq-1xx-xx-x-x-xxx-xx-x-xx-mkt-755974.pdf?src-supplier=Digikey; System: Connector; ComponentLink2Description: Link Digikey; ComponentLink2URL: https://www.digikey.com/en/products/detail/samtec-inc/ESQ-115-12-G-D/2640973
footprint HEADER-2.54-15x2-HOR-SAM
pins: 01, 02, 03, 04, 05, 06, 07, 08, 09, 10, 11, 12, 13, 14, 15, 16, 17, 18, 19, 20, 21, 22, 23, 24, 25, 26, 27, 28, 29, 30

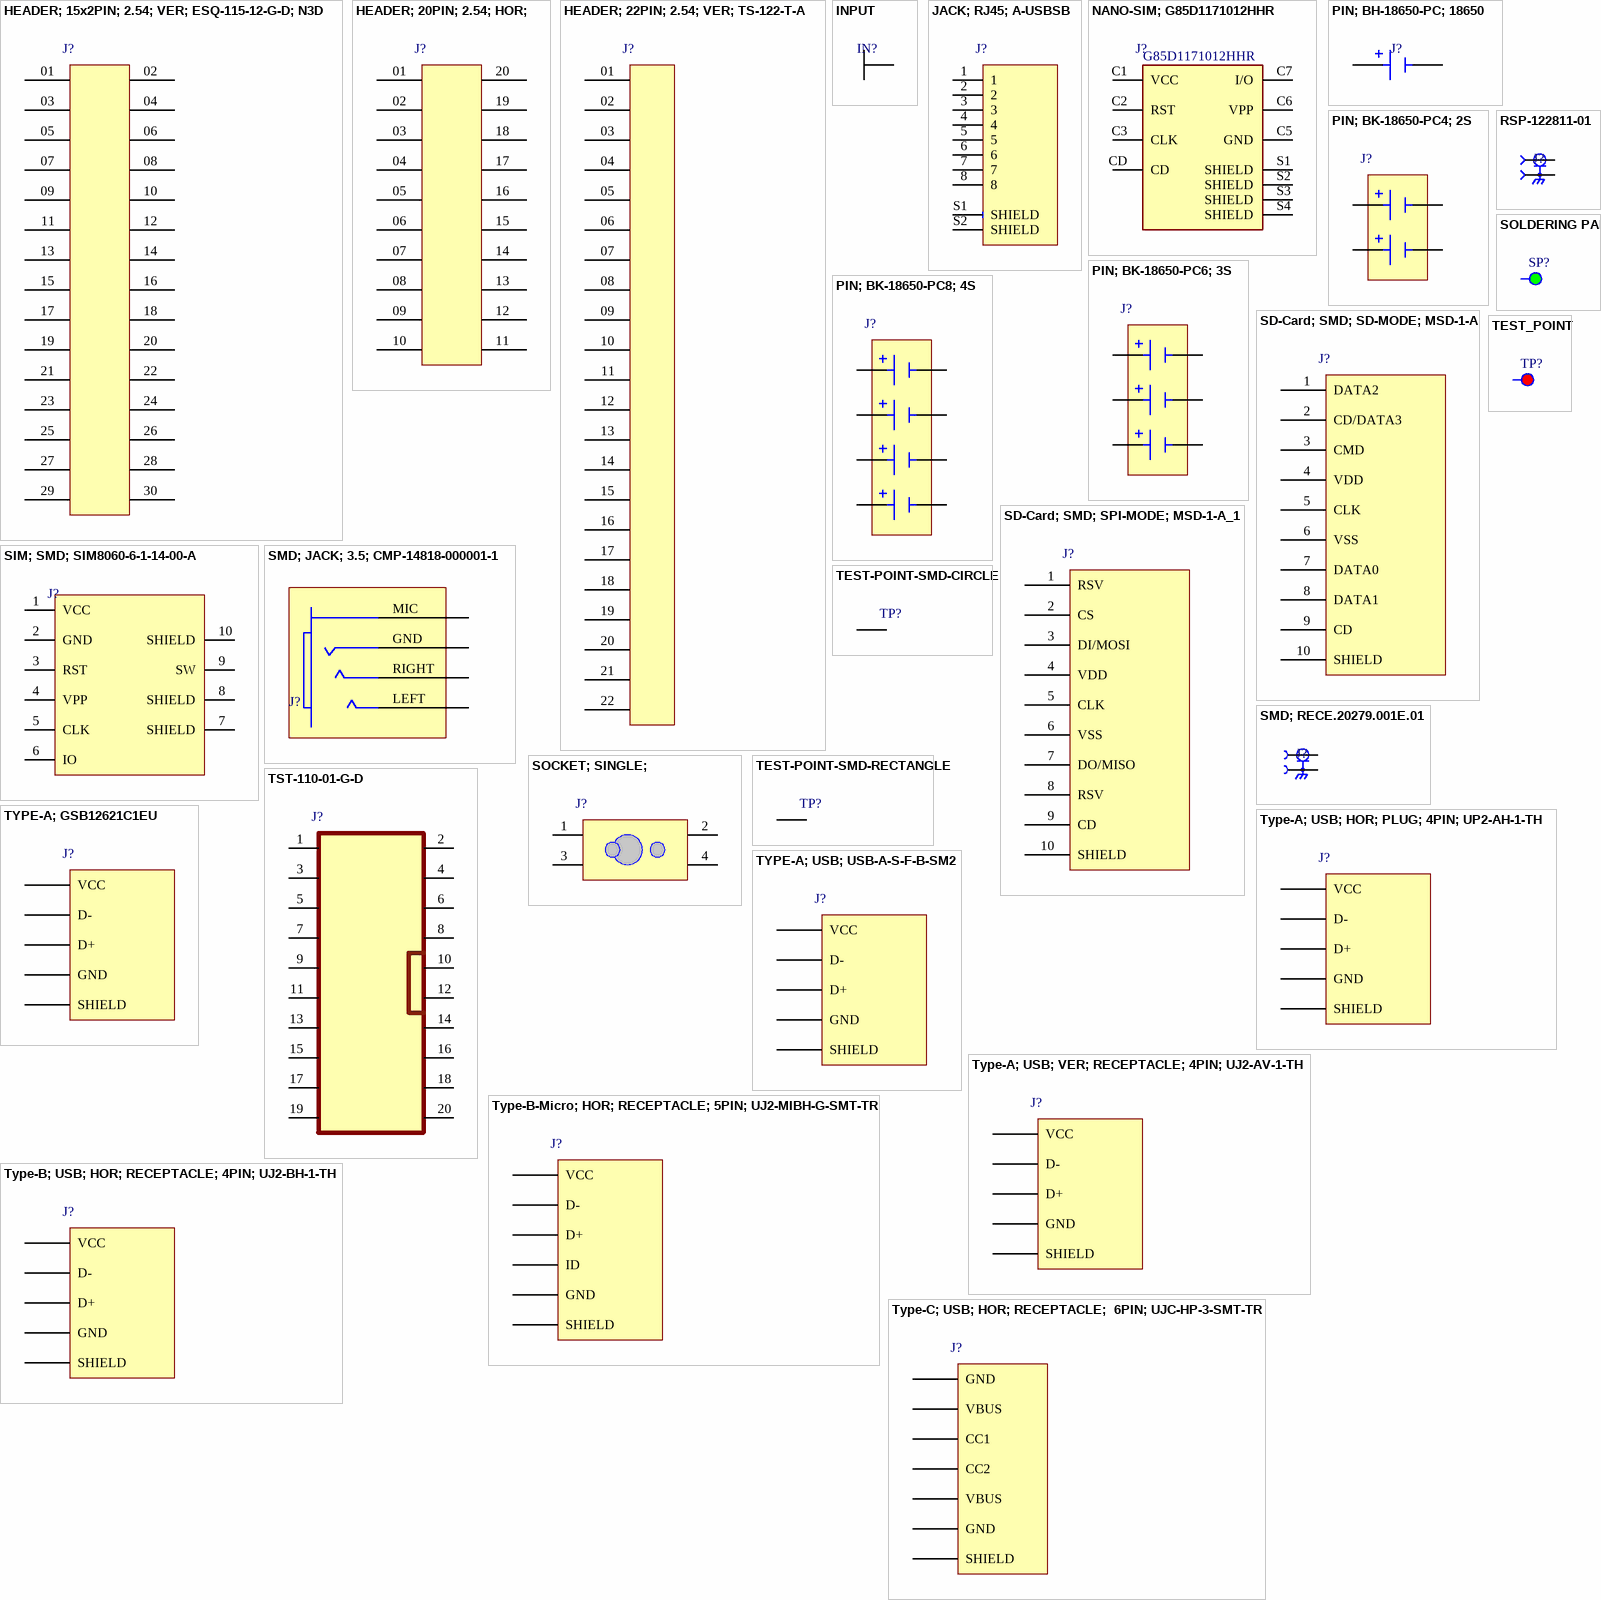
[diagram p1: symbols HEADER; 15x2PIN; 2.54; VER; ESQ-115-12-G-D; N3D to Type-C; USB; HOR; RECEPTACLE;  6PIN; UJC-HP-3-SMT-TR]

## HEADER; 15x2PIN; 2.54; VER; ESQ-115-12-G-D; N3D
designator J?, comment 30 Position Elevated Socket Connector 0.100" (2.54mm) Through Hole Gold  (value not drawn)
Connector Receptacle 30 Position 0.100" (2.54mm) Gold Through Hole; Manufacturer: Samtec; Manufacturer Part Number: ESQ-115-12-G-D; Number of Positions: 30; Pitch: 0.1inch; Designer: TVBac; Supplier: Avnet; Supplier Part Number: ESQ-115-12-G-D; RoHS: Yes; Category: Connectors; Stock: 311; Pricing: 1=6.2034, 10=5.5341, 30=5.50572, 50=5.47734, 100=4.4064 (USD); Mounting Technology: Through Hole; Contact Plating: Gold; Contact Material: Bronze; Color: Black; Number of Rows: 2; Packaging: Rail/Tube; Package Quantity: 1; Connector Type: Receptacle; Termination: Solder; Number of Contacts: 30; Gender: Receptacle; Series: ESQ; Contact Type: Female Socket; Row Spacing: 0.1inch; Reach SVHC Compliant: No; RoHS Compliant: Yes; ComponentLink1URL: https://datasheet.ciiva.com/755/esq-1xx-xx-x-x-xxx-xx-x-xx-mkt-755974.pdf?src-supplier=Digikey; ComponentLink1Description: https://datasheet.ciiva.com/755/esq-1xx-xx-x-x-xxx-xx-x-xx-mkt-755974.pdf?src-supplier=Digikey; System: Connector; ComponentLink2Description: Link Digikey; ComponentLink2URL: https://www.digikey.com/en/products/detail/samtec-inc/ESQ-115-12-G-D/2640973
footprint HEADER-2.54-15x2-N3D
footprint HEADER-2.54-15x2-HOR-SAM - N3D
pins: 01, 02, 03, 04, 05, 06, 07, 08, 09, 10, 11, 12, 13, 14, 15, 16, 17, 18, 19, 20, 21, 22, 23, 24, 25, 26, 27, 28, 29, 30

## HEADER; 20PIN; 2.54; HOR;
designator J?  (value not drawn)
Designer: TVBac; System: Connector
footprint HEADER-2.54-10x2-HOR
pins: 01 1, 02 2, 03 2, 04 4, 05 5, 06 6, 07 7, 08 8, 09 9, 10, 11, 12, 13, 14, 15, 16, 17, 18, 19, 20

## HEADER; 22PIN; 2.54; VER; TS-122-T-A
designator J?, comment 22 Position Header Connector Post Tin  (value not drawn)
Headers & Wire Housings .100 Single Row Screw Machine Terminal Strip; Manufacturer: Samtec; Manufacturer Part Number: TS-122-T-A; Designer: TVBac; Supplier: Arrow Electronics; Supplier Part Number: TS-122-T-A; RoHS: Yes; Category: Connectors; Stock: 217; Pricing: 1=3.59, 50=2.92, 100=2.48, 500=2.21, 1000=1.75, 2000=1.6, 5000=1.29, 10962=0.99 (USD); ComponentLink1URL: https://datasheet.ciiva.com/410/tx-1xx-x-x-mkt1-410252.pdf?src-supplier=Digikey; ComponentLink1Description: https://datasheet.ciiva.com/410/tx-1xx-x-x-mkt1-410252.pdf?src-supplier=Digikey; ComponentLink2Description: Link Digikey; ComponentLink2URL: https://www.digikey.com/en/products/detail/samtec-inc/TS-122-T-A/1105472; System: Connector
footprint HEADER-2.54-22
pins: 01 1, 02 2, 03 2, 04 4, 05 5, 06 6, 07 7, 08 8, 09 9, 10, 11, 12, 13, 14, 15, 16, 17, 18, 19, 20, 21, 22

## INPUT
designator IN?  (value not drawn)
Designer: TVBac
footprint INPUT-A
footprint INPUT-B
footprint INPUT-C
pins: 1 IN

## JACK; RJ45; A-USBSB
designator J?, comment Jack Modular Connector 8p8c (RJ45, Ethernet) 90° Angle (Right) Shielded  (value not drawn)
Connector Receptacle USB TypeB 4 Position Through Hole, Right Angle, Horizontal; Manufacturer: Assmann; Manufacturer Part Number: A-USBSB; Supplier: Arrow Electronics; Supplier Part Number: A-USBSB; RoHS: Yes; Category: Connectors; Stock: 8567; Pricing: 1=0.9333, 10=0.7867, 25=0.7313, 80=0.6679, 160=0.6301, 320=0.5945, 560=0.566, 1040=0.5364, 2560=0.4986 (USD); ComponentLink1URL: https://datasheet.ciiva.com/11731/0900766b80da421f-11731321.pdf?src-supplier=Rs; ComponentLink1Description: https://datasheet.ciiva.com/11731/0900766b80da421f-11731321.pdf?src-supplier=Rs; ComponentLink2URL: https://datasheet.ciiva.com/15181/getdatasheetpartid-407430-15181344.pdf?src-supplier=Verical; ComponentLink2Description: https://datasheet.ciiva.com/15181/getdatasheetpartid-407430-15181344.pdf?src-supplier=Verical; ComponentLink3URL: https://datasheet.ciiva.com/852/usbadaptors1394-852012.pdf?src-supplier=Digikey; ComponentLink3Description: https://datasheet.ciiva.com/852/usbadaptors1394-852012.pdf?src-supplier=Digikey
footprint JACK-RJ45
pins: 1, 2, 3, 4, 5, 6, 7, 8, S1 SHIELD, S2 SHIELD

## NANO-SIM; G85D1171012HHR
designator J?, comment Manufacturer Part Number: G85D1171012HHR  (hidden comment: 8 (6 + 2) Position Card Connector NANO SIM Surface Mount, Right Angle Gold)
Nano SIM Card Connector, 6 Position, Surface Mount, Push/Push Type, 1.37mm Height, normal close; Manufacturer: Amphenol; Supplier: Digikey; Supplier Part Number: 664-G85D1171012HHRCT-ND; RoHS: No; Category: Connectors; Stock: 6308; Pricing: 1=2.18, 10=1.852, 25=1.7356, 50=1.6524, 100=1.5735, 250=1.47492, 500=1.40452 (USD)
footprint NANO-SIM-CARD-AIIC
pins: C1 VCC, C2 RST, C3 CLK, C5 GND, C6 VPP, C7 I/O, CD, S1 SHIELD, S2 SHIELD, S3 SHIELD, S4 SHIELD

## PIN; BH-18650-PC; 18650
designator J?, comment Battery Holder (Open) 18650 1 Cell PC Pin  (value not drawn)
Batt Holder 18650 1 Cell Pc Pin; Manufacturer: Memory Protection Devices; Manufacturer Part Number: BH-18650-PC; Number of Cells: 1; Designer: TVBac; Supplier: Digikey; Supplier Part Number: BH-18650-PC-ND; RoHS: Yes; Category: LDO; Stock: 14782; Pricing: 1=3.12, 10=2.59, 50=2.274, 100=2.1501, 300=1.96737, 500=1.88778, 1000=1.78493, 2500=1.75 (USD); Mounting Technology: Through Hole,PCB; Min Operating Temperature: -40°C; Max Operating Temperature: 180°C; Termination: PC Pin; Series: -; RoHS Compliant: Yes; ComponentLink1URL: https://datasheet.ciiva.com/3/bh-18650-pc-datasheet-3874.pdf?src-supplier=Digikey; ComponentLink1Description: https://datasheet.ciiva.com/3/bh-18650-pc-datasheet-3874.pdf?src-supplier=Digikey; ComponentLink2Description: Link Digikey; ComponentLink2URL: https://www.digikey.com/en/products/detail/mpd-memory-protection-devices/BH-18650-PC/3029216
footprint PIN-18650-1S
pins: N, P

## PIN; BK-18650-PC4; 2S
designator J?, comment Battery Holder (Open) 18650 2 Cell PC Pin  (value not drawn)
Batt Holder 18650 2 Cell Pc Pin; Manufacturer: Memory Protection Devices; Manufacturer Part Number: BK-18650-PC4; Designer: TVBac; Supplier: Digikey; Supplier Part Number: BK-18650-PC4-ND; RoHS: Yes; Stock: 4340; Pricing: 1=5.54, 10=4.598, 50=4.037, 100=3.817, 300=3.4927, 500=3.35142, 1000=3.16881, 2500=2.9426 (USD); ComponentLink1URL: https://datasheet.ciiva.com/3/bk-18650-pc4-datasheet-3893.pdf?src-supplier=Digikey; ComponentLink1Description: https://datasheet.ciiva.com/3/bk-18650-pc4-datasheet-3893.pdf?src-supplier=Digikey; ComponentLink2Description: Link Digikey; ComponentLink2URL: https://www.digikey.com/en/products/detail/mpd-memory-protection-devices/BK-18650-PC4/2330513
footprint PIN-18650-2S
pins: 1+ P, 1- N, 2+ P, 2- N

## PIN; BK-18650-PC6; 3S
designator J?, comment Battery Holder (Open) 18650 3 Cell PC Pin  (value not drawn)
Batt Holder 18650 3 Cell Pc Pin; Manufacturer: Memory Protection Devices; Manufacturer Part Number: BK-18650-PC6; Designer: TVBac; Supplier: Digikey; Supplier Part Number: BK-18650-PC6-ND; RoHS: Yes; Category: Power Connectors; Stock: 3415; Pricing: 1=6.39, 10=5.308, 50=4.6606, 100=4.4067, 300=4.03223, 500=3.86914, 1000=3.65832, 2500=3.39716 (USD); ComponentLink1URL: https://datasheet.ciiva.com/3/bk-18650-pc6-datasheet-3897.pdf?src-supplier=Digikey; ComponentLink1Description: https://datasheet.ciiva.com/3/bk-18650-pc6-datasheet-3897.pdf?src-supplier=Digikey; ComponentLink2Description: Link Digikey; ComponentLink2URL: https://www.digikey.com/en/products/detail/mpd-memory-protection-devices/BK-18650-PC6/2330514
footprint PIN-18650-3S
pins: 1+ P, 1- N, 2+ P, 2- N, 3+ P, 3- N

## PIN; BK-18650-PC8; 4S
designator J?, comment Battery Holder (Open) 18650 4 Cell PC Pin  (value not drawn)
Batt Holder 18650 4 Cell Pc Pin; Manufacturer: Memory Protection Devices; Manufacturer Part Number: BK-18650-PC8; Number of Cells: 4; Designer: TVBac; Supplier: Digikey; Supplier Part Number: BK-18650-PC8-ND; RoHS: Yes; Category: Uncategorized; Stock: 233; Pricing: 1=7.12, 10=5.908, 50=5.1878, 100=4.9051, 300=4.4883, 500=4.30674, 1000=4.07207, 2500=3.78139 (USD); Mounting Technology: Through Hole,PCB; Termination: PC Pin; Series: -; RoHS Compliant: Yes; ComponentLink1URL: https://datasheet.ciiva.com/3/bk-18650-pc8-datasheet-3900.pdf?src-supplier=Digikey; ComponentLink1Description: https://datasheet.ciiva.com/3/bk-18650-pc8-datasheet-3900.pdf?src-supplier=Digikey; ComponentLink2Description: Link Digikey; ComponentLink2URL: https://www.digikey.com/en/products/detail/mpd-memory-protection-devices/BK-18650-PC8/2330515
footprint PIN-18650-4S
pins: 1+ P, 1- N, 2+ P, 2- N, 3+ P, 3- N, 4+ P, 4- N

## RSP-122811-01
designator J?, comment U.FL (UMCC), I-PEX MHFI Connector Receptacle, Male Pin 50 Ohms Surface Mount Solder  (value not drawn)
RF MHF Connector, 1 Contact(s), Male, Board Mount, Surface Mount Terminal, Receptacle; Manufacturer: Samtec; Manufacturer Part Number: RSP-122811-01; Body Material: Bronze; Dielectric Material: Polymer; Impedance: 50R; Gender: Female; Operating Frequency: 0 to 6 GHz; Clock Frequency: 6GHz; Number of Ports: 1; Number of Contacts: 1NUMBER; Voltage Rating: 60V; Supplier: Digikey; Supplier Part Number: 612-RSP-122811-01CT-ND; RoHS: Yes; Category: RF / Coaxial Connectors; Stock: 8391; Pricing: 1=0.99, 10=0.842, 25=0.7896, 50=0.7516, 100=0.7157, 250=0.67084, 500=0.6388, 1000=0.60831, 2500=0.588 (USD); Mounting Technology: Surface Mount; Case/Package: SMD/SMT; Contact Material: Bronze; Min Operating Temperature: -40°C; Max Operating Temperature: 90°C; Packaging: Strip; Termination: Solder; Orientation: Straight; Connector Type: Receptacle,Male Pin; Fastening Type: SNAP-ON; Series: -; Length: 3.1mm; Depth: 3mm; Radiation Hardening: No; RoHS Compliant: Yes; ComponentLink1URL: https://media.digikey.com/pdf/Data%20Sheets/Samtec/RSP-122811-01_dwg.pdf?src-supplier=Digikey; ComponentLink1Description: https://media.digikey.com/pdf/Data%20Sheets/Samtec/RSP-122811-01_dwg.pdf?src-supplier=Digikey; ComponentLink2URL: http://components.arrow.com/part/dataview/44251978S9204898N1004?src-supplier=Arrow+Electronics; ComponentLink2Description: http://components.arrow.com/part/dataview/44251978S9204898N1004?src-supplier=Arrow+Electronics; ComponentLink3URL: http://www.samtec.com/documents/webfiles/CPDF/rsp-122811-02.pdf?src-supplier=Avnet; ComponentLink3Description: http://www.samtec.com/documents/webfiles/CPDF/rsp-122811-02.pdf?src-supplier=Avnet
footprint SMD-CON-I_PEX-MHFI-SI
pins: 1, 2 GND, 3 GND

## SD-Card; SMD; SD-MODE; MSD-1-A
designator J?, comment 9 (8 + 1) Position Card Connector microSD™ Surface Mount, Right Angle Gold  (value not drawn)
Micro Sd Card Connector, 9 Posit; Manufacturer: CUI Devices; Manufacturer Part Number: MSD-1-A; Designer: TVBac; Supplier: Digikey; Supplier Part Number: 2223-MSD-1-ACT-ND; RoHS: No; Category: LDO; Stock: 2530; Pricing: 1=0.35, 10=0.348, 25=0.3408, 50=0.3204, 100=0.2727, 250=0.25224, 500=0.24544 (USD); ComponentLink1Description: Link Digikey; ComponentLink1URL: https://www.digikey.com/en/products/detail/same-sky-formerly-cui-devices/MSD-1-A/21799641
footprint SD-CARD-9PIN-SMD
pins: 1 DATA2, 2 CD/DATA3, 3 CMD, 4 VDD, 5 CLK, 6 VSS, 7 DATA0, 8 DATA1, 9 CD, 10 SHIELD

## SD-Card; SMD; SPI-MODE; MSD-1-A_1
designator J?, comment 9 (8 + 1) Position Card Connector microSD™ Surface Mount, Right Angle Gold  (value not drawn)
Micro Sd Card Connector, 9 Posit; Manufacturer: CUI Devices; Manufacturer Part Number: MSD-1-A; Designer: TVBac; Supplier: Digikey; Supplier Part Number: 2223-MSD-1-ACT-ND; RoHS: No; Category: LDO; Stock: 2530; Pricing: 1=0.35, 10=0.348, 25=0.3408, 50=0.3204, 100=0.2727, 250=0.25224, 500=0.24544 (USD); ComponentLink1Description: Link Digikey; ComponentLink1URL: https://www.digikey.com/en/products/detail/same-sky-formerly-cui-devices/MSD-1-A/21799641
footprint SD-CARD-9PIN-SMD
pins: 1 RSV, 2 CS, 3 DI/MOSI, 4 VDD, 5 CLK, 6 VSS, 7 DO/MISO, 8 RSV, 9 CD, 10 SHIELD

## SIM; SMD; SIM8060-6-1-14-00-A
designator J?, comment 6 Position Card Connector NANO SIM Surface Mount, Right Angle Gold  (value not drawn)
6 Position Right Angle Surface Mount NANO SIM Card Connector; Manufacturer: Global Connector Technology; Manufacturer Part Number: SIM8060-6-1-14-00-A; Designer: TVBac; Supplier: Digikey; Supplier Part Number: 2073-SIM8060-6-1-14-00-ACT-ND; RoHS: No; Category: Connectors; Stock: 11694; Pricing: 1=1.44, 10=1.217, 25=1.1676, 50=1.143, 100=1.0932, 250=0.99384, 500=0.89446 (USD); ComponentLink1URL: https://datasheet.octopart.com/SIM8060-6-1-14-00-A-Global-Connector-Technology-datasheet-128083790.pdf?src-supplier=Future+Electronics; ComponentLink1Description: https://datasheet.octopart.com/SIM8060-6-1-14-00-A-Global-Connector-Technology-datasheet-128083790.pdf?src-supplier=Future+Electronics; ComponentLink2URL: https://gct.co/files/drawings/sim8060.pdf?src-supplier=Digikey; ComponentLink2Description: https://gct.co/files/drawings/sim8060.pdf?src-supplier=Digikey; ComponentLink3Description: Link Digikey; ComponentLink3URL: https://www.digikey.com/en/products/detail/gct/SIM8060-6-1-14-00-A/10127235
footprint NANO-SIM8060
pins: 1 VCC, 2 GND, 3 RST, 4 VPP, 5 CLK, 6 IO, 7 SHIELD, 8 SHIELD, 9 SW, 10 SHIELD

## SMD; JACK; 3.5; CMP-14818-000001-1
designator J?, comment SJ2-3574A-SMT-TR  (value not drawn)
AUDIO JACK, 3.5 MM, RT, 4 CONDUC; Manufacturer: CUI; Conn Orientation: Horizontal; Current Rating: 1A; Number Of Contacts: 4; Voltage Rating: 12V; Designer: TVBac; Package: SJ2-3574A-SMT-TR; Device Class L1: Connectors; Lead Free: Yes; Digikey Description: AUDIO JACK, 3.5 MM, RT, 4 CONDUC; Device Class L2: Audio / Video Connectors; ComponentLink2URL: https://www.cui.com/product/resource/sj2-357x-smt.pdf; Automotive: No; RoHS: TRUE; Height: 5.3mm; Temperature Range Low: -25°C; Category: Conn; Temperature: -25°C to +85°C; Octopart: https://octopart.com/sj2-3574a-smt-tr-cui-77838840; Device Class L3: unset; Contact Material: Silver; Manufacturer Part Number: SJ2-3574A-SMT-TR; Temperature Range High: +85°C; ComponentLink2Description: Datasheet; ComponentLink3Description: Link Digikey; ComponentLink3URL: https://www.digikey.com/en/products/detail/same-sky-formerly-cui-devices/SJ2-3574A-SMT-TR/6619530
footprint SMD-JACK-3.5-SNAP
pins: GND, LEFT, MIC, RIGHT

## SMD; RECE.20279.001E.01
designator J?, comment U.FL (UMCC), I-PEX MHFI Connector Receptacle, Male Pin 50 Ohms Surface Mount Solder  (value not drawn)
Rf Coax Conn, U.fl Jack, 50 Ohm, Smd Rohs Compliant: Yes |Taoglas RECE.20279.001E.01; Designer: TVBac; Supplier: Digikey; Supplier Part Number: 931-1107-1-ND; Manufacturer: Taoglas; Manufacturer Part Number: RECE.20279.001E.01; RoHS: Yes; Category: RF / Coaxial Connectors; Stock: 49317; Pricing: 1=0.78, 5000=0.78, 10000=0.77 (USD); ComponentLink1URL: https://datasheet.octopart.com/RECE.20279.001E.01-Taoglas-datasheet-158528537.pdf?src-supplier=Electro+Sonic; ComponentLink1Description: https://datasheet.octopart.com/RECE.20279.001E.01-Taoglas-datasheet-158528537.pdf?src-supplier=Electro+Sonic; ComponentLink2Description: Link Digikey; ComponentLink2URL: https://www.digikey.com/en/products/detail/taoglas-limited/RECE-20279-001E-01/2332734
footprint SMd-IPEX-UFL
pins: 1 SIGNAL, 2 GROUND, 3 GROUND